# Altium schematic symbol library ERJ-P06J560V.SchLib: 1 symbol
Pins are listed as number, name and electrical type; pins without a type are passive.

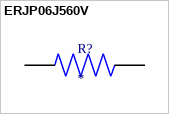
[diagram p0: symbol ERJP06J560V]

## ERJP06J560V
designator R?
MF: {'manufacturer': u'Panasonic'}; MP: ERJP06J560V; Availability: Unavailable; Value: *; Price: None; Package: None
footprint RES_ERJP06J560V
pins: 1, 2